# Altium integrated library Linear Technology Operational Amplifiers (LT2000-LT6000).IntLib: 1710 symbols (part 66 of 75)
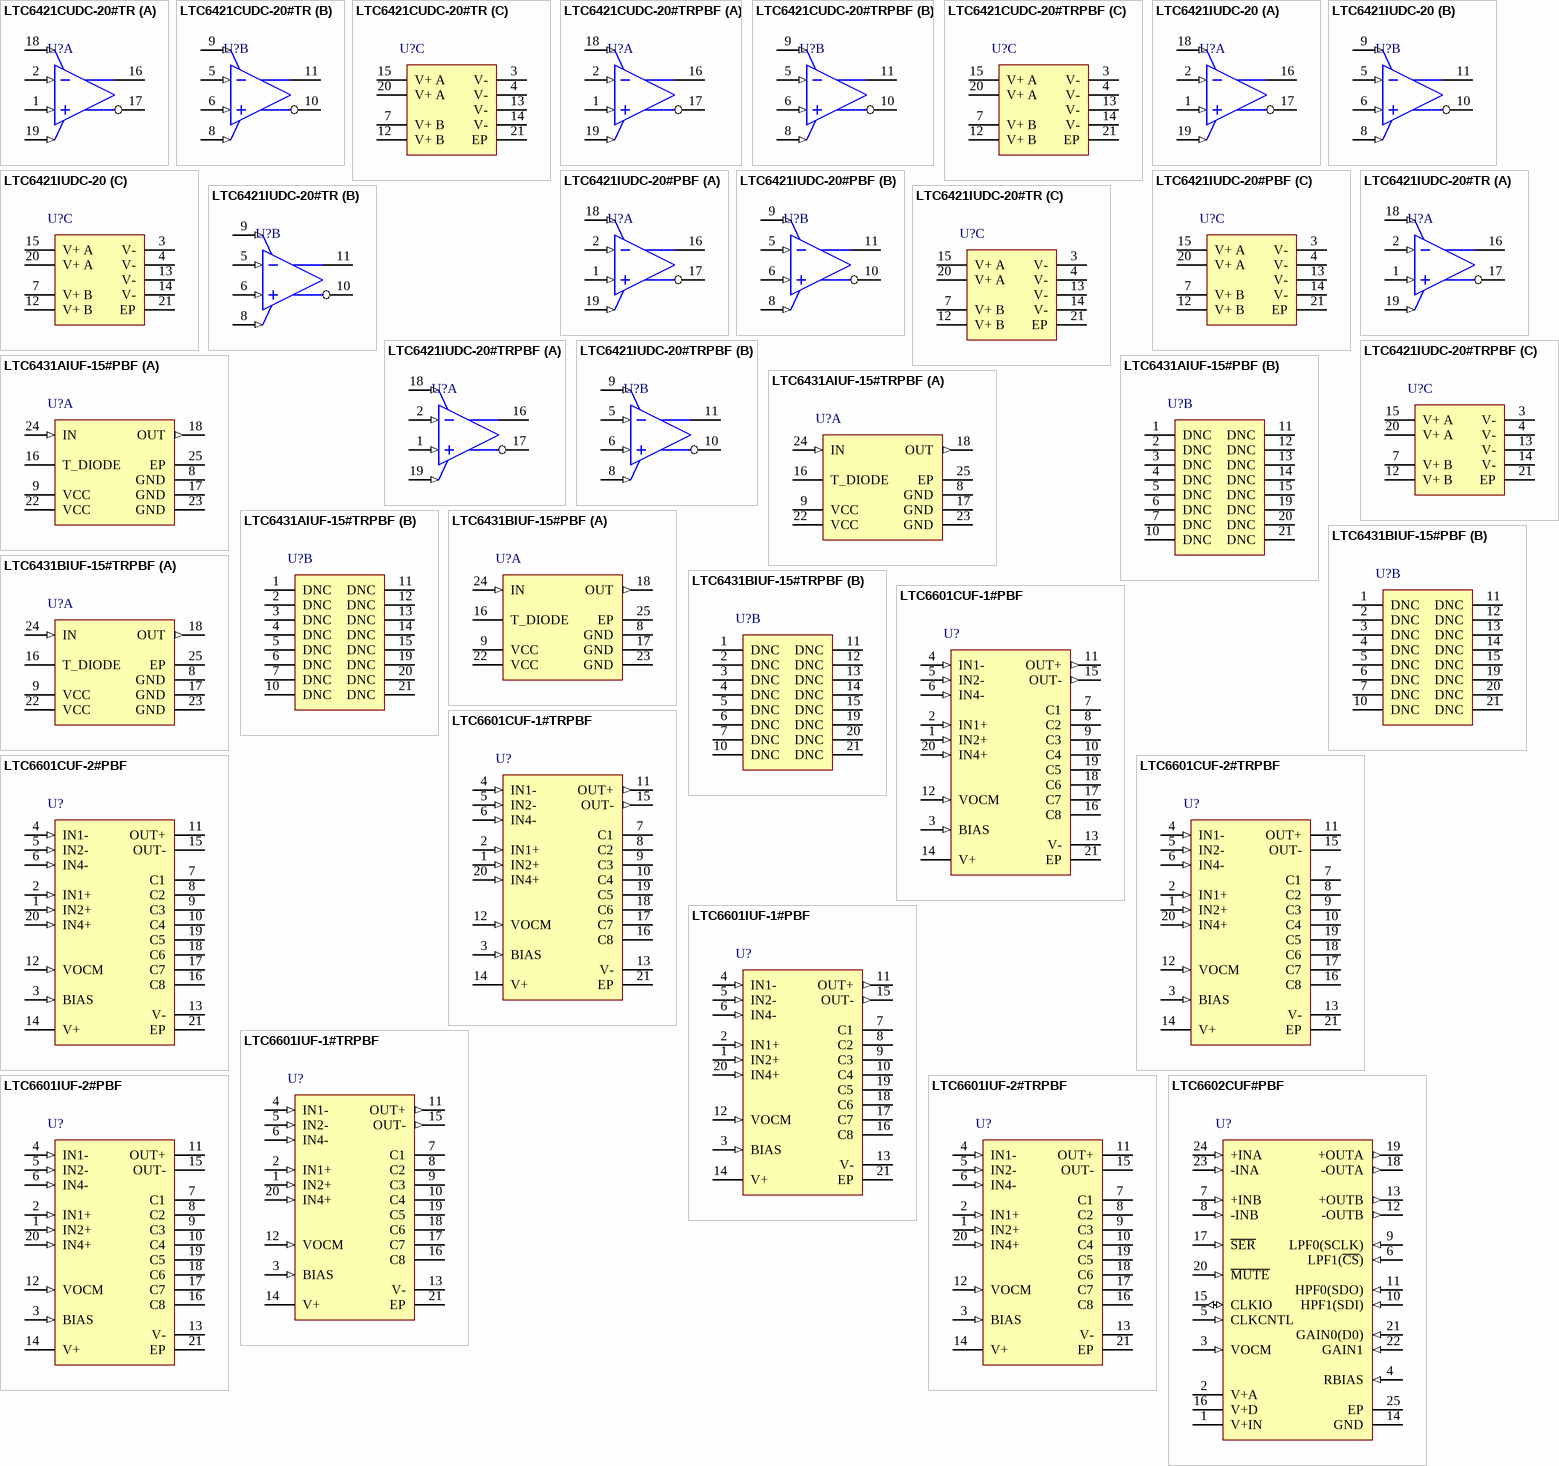
[diagram p145: symbols LTC6421CUDC-20#TR to LTC6602CUF#PBF]

## LTC6421IUDC-20#PBF
designator U?
Dual Channel, Matched Differential Amplifier / ADC Driver, 1300 MHz Typical GBW, 4500 V/us Typical SR, 2.85 to 3.5 V, 20-Pin QFN (UDC20), Industrial, Pb-Free; Linear Technology Part Number: LTC6421-20; Manufacturer: Linear Technology; PartNumber: LTC6421IUDC-20#PBF; Channels (#): 2; GBW (MHz) Typical: 1300; Is (mA) Typical: 40; SR (V/us) Typical: 4500; Vos (mV) Typical: 0.4; Vs Max (V): 3.5; Vs Min (V): 2.85; DatasheetVersion: Rev. B; PackageVersion: Rev Ø; PackageReference: LT-UDC-20; PackageDescription: 20-Lead Plastic QFN, Body 3 x 4 mm, Pitch 0.5 mm; Supplier 1: Digi-Key; Supplier Part Number 1: LTC6421IUDC-20#PBF-ND; Supplier 2: Farnell; Supplier Part Number 2: 1609736; Supplier 3: Newark; Supplier Part Number 3: 95M6548; RoHS: Pb-Free; Type: DIFF; Mounting Technology: Surface Mount; ComponentLink1Description: Manufacturer URL; ComponentLink1URL: http://www.linear.com/; ComponentLink2Description: Datasheet; ComponentLink2URL: http://cds.linear.com/docs/en/datasheet/642120f.pdf; ComponentLink3Description: Package Specification; ComponentLink3URL: http://cds.linear.com/docs/en/packaging/QFN_20_05-08-1742.pdf
footprint LT-UDC-20_N (QFN, 20-Leads, Body 4x3mm, Pitch 0.5mm, Thermal Pad 2.5x1.5mm, IPC Medium Density)
footprint LT-UDC-20_L (QFN, 20-Leads, Body 4x3mm, Pitch 0.5mm, Thermal Pad 2.5x1.5mm, IPC High Density)
footprint LT-UDC-20_M (QFN, 20-Leads, Body 4x3mm, Pitch 0.5mm, Thermal Pad 2.5x1.5mm, IPC Low Density)
part A pins: 1 +INA (in) "Differential Input of A channel respectively.", 2 -INA (in) "Differential Input of A channel respectively.", 16 -OUTA (hiz) "Differential Output of channe A respectively.", 17 +OUTA (hiz) "Differential Output of channe A respectively.", 18 ~{ENABLEA} (in) "Logic input. If low, the amplifier is enabled. If high, the amplifier is disabled and placed in a low power shutdown mode, making the amplifier outputs high impedance. These pin is internally separate. These pin should not (See Datasheet)", 19 VOCMA (in) "These pin sets the output common mode voltage for the respective channel. It is  internally separate. A 0.1uF external bypass capacitor is recommended."
part B pins: 5 -INB (in) "Differential Input of  B channel respectively.", 6 +INB (in) "Differential Input of  B channel respectively.", 8 VOCMB (in) "These pin sets the output common mode voltage for the respective channel. It is  internally separate. A 0.1uF external bypass capacitor is recommended.", 9 ~{ENABLEB} (in) "Logic input. If low, the amplifier is enabled. If high, the amplifier is disabled and placed in a low power shutdown mode, making the amplifier outputs high impedance. These pin is internally separate. These pin should not (See Datasheet)", 10 +OUTB (hiz) "Differential Output of channe B respectively.", 11 -OUTB (hiz) "Differential Output of channe B respectively."
part C pins: 3 V- (power) "Negative Power Supply. All four pins, as well as the exposed back, must be connected to same voltage/ground.", 4 V- (power) "Negative Power Supply. All four pins, as well as the exposed back, must be connected to same voltage/ground.", 7 V+ B (power) "Positive Power Supply (Normally tied to 3V or 3.3V). Supply pins of A and B channels are internally separate. Bypass each pin with 1000pF and 0.1uF capacitors as close to the pins as possible.", 12 V+ B (power) "Positive Power Supply (Normally tied to 3V or 3.3V). Supply pins of A and B channels are internally separate. Bypass each pin with 1000pF and 0.1uF capacitors as close to the pins as possible.", 13 V- (power) "Negative Power Supply. All four pins, as well as the exposed back, must be connected to same voltage/ground.", 14 V- (power) "Negative Power Supply. All four pins, as well as the exposed back, must be connected to same voltage/ground.", 15 V+ A (power) "Positive Power Supply (Normally tied to 3V or 3.3V). Supply pins of A and B channels are internally separate. Bypass each pin with 1000pF and 0.1uF capacitors as close to the pins as possible.", 20 V+ A (power) "Positive Power Supply (Normally tied to 3V or 3.3V). Supply pins of A and B channels are internally separate. Bypass each pin with 1000pF and 0.1uF capacitors as close to the pins as possible.", 21 EP (power) "V-. The Exposed Pad must be connected to same voltage/ground as pins 3, 4, 13, 14."

## LTC6421IUDC-20#TR
designator U?
Dual Channel, Matched Differential Amplifier / ADC Driver, 1300 MHz Typical GBW, 4500 V/us Typical SR, 2.85 to 3.5 V, 20-Pin QFN (UDC20), Industrial, Reel; Linear Technology Part Number: LTC6421-20; Manufacturer: Linear Technology; PartNumber: LTC6421IUDC-20#TR; Channels (#): 2; GBW (MHz) Typical: 1300; Is (mA) Typical: 40; SR (V/us) Typical: 4500; Vos (mV) Typical: 0.4; Vs Max (V): 3.5; Vs Min (V): 2.85; DatasheetVersion: Rev. B; PackageVersion: Rev Ø; PackageReference: LT-UDC-20; PackageDescription: 20-Lead Plastic QFN, Body 3 x 4 mm, Pitch 0.5 mm; Supplier 1: Newark; Supplier Part Number 1: 95M6549; Packing: Reel; Type: DIFF; Mounting Technology: Surface Mount; ComponentLink1Description: Manufacturer URL; ComponentLink1URL: http://www.linear.com/; ComponentLink2Description: Datasheet; ComponentLink2URL: http://cds.linear.com/docs/en/datasheet/642120f.pdf; ComponentLink3Description: Package Specification; ComponentLink3URL: http://cds.linear.com/docs/en/packaging/QFN_20_05-08-1742.pdf
footprint LT-UDC-20_N (QFN, 20-Leads, Body 4x3mm, Pitch 0.5mm, Thermal Pad 2.5x1.5mm, IPC Medium Density)
footprint LT-UDC-20_L (QFN, 20-Leads, Body 4x3mm, Pitch 0.5mm, Thermal Pad 2.5x1.5mm, IPC High Density)
footprint LT-UDC-20_M (QFN, 20-Leads, Body 4x3mm, Pitch 0.5mm, Thermal Pad 2.5x1.5mm, IPC Low Density)
part A pins: 1 +INA (in) "Differential Input of A channel respectively.", 2 -INA (in) "Differential Input of A channel respectively.", 16 -OUTA (hiz) "Differential Output of channe A respectively.", 17 +OUTA (hiz) "Differential Output of channe A respectively.", 18 ~{ENABLEA} (in) "Logic input. If low, the amplifier is enabled. If high, the amplifier is disabled and placed in a low power shutdown mode, making the amplifier outputs high impedance. These pin is internally separate. These pin should not (See Datasheet)", 19 VOCMA (in) "These pin sets the output common mode voltage for the respective channel. It is  internally separate. A 0.1uF external bypass capacitor is recommended."
part B pins: 5 -INB (in) "Differential Input of  B channel respectively.", 6 +INB (in) "Differential Input of  B channel respectively.", 8 VOCMB (in) "These pin sets the output common mode voltage for the respective channel. It is  internally separate. A 0.1uF external bypass capacitor is recommended.", 9 ~{ENABLEB} (in) "Logic input. If low, the amplifier is enabled. If high, the amplifier is disabled and placed in a low power shutdown mode, making the amplifier outputs high impedance. These pin is internally separate. These pin should not (See Datasheet)", 10 +OUTB (hiz) "Differential Output of channe B respectively.", 11 -OUTB (hiz) "Differential Output of channe B respectively."
part C pins: 3 V- (power) "Negative Power Supply. All four pins, as well as the exposed back, must be connected to same voltage/ground.", 4 V- (power) "Negative Power Supply. All four pins, as well as the exposed back, must be connected to same voltage/ground.", 7 V+ B (power) "Positive Power Supply (Normally tied to 3V or 3.3V). Supply pins of A and B channels are internally separate. Bypass each pin with 1000pF and 0.1uF capacitors as close to the pins as possible.", 12 V+ B (power) "Positive Power Supply (Normally tied to 3V or 3.3V). Supply pins of A and B channels are internally separate. Bypass each pin with 1000pF and 0.1uF capacitors as close to the pins as possible.", 13 V- (power) "Negative Power Supply. All four pins, as well as the exposed back, must be connected to same voltage/ground.", 14 V- (power) "Negative Power Supply. All four pins, as well as the exposed back, must be connected to same voltage/ground.", 15 V+ A (power) "Positive Power Supply (Normally tied to 3V or 3.3V). Supply pins of A and B channels are internally separate. Bypass each pin with 1000pF and 0.1uF capacitors as close to the pins as possible.", 20 V+ A (power) "Positive Power Supply (Normally tied to 3V or 3.3V). Supply pins of A and B channels are internally separate. Bypass each pin with 1000pF and 0.1uF capacitors as close to the pins as possible.", 21 EP (power) "V-. The Exposed Pad must be connected to same voltage/ground as pins 3, 4, 13, 14."

## LTC6421IUDC-20#TRPBF
designator U?
Dual Channel, Matched Differential Amplifier / ADC Driver, 1300 MHz Typical GBW, 4500 V/us Typical SR, 2.85 to 3.5 V, 20-Pin QFN (UDC20), Industrial, Pb-Free, Reel; Linear Technology Part Number: LTC6421-20; Manufacturer: Linear Technology; PartNumber: LTC6421IUDC-20#TRPBF; Channels (#): 2; GBW (MHz) Typical: 1300; Is (mA) Typical: 40; SR (V/us) Typical: 4500; Vos (mV) Typical: 0.4; Vs Max (V): 3.5; Vs Min (V): 2.85; DatasheetVersion: Rev. B; PackageVersion: Rev Ø; PackageReference: LT-UDC-20; PackageDescription: 20-Lead Plastic QFN, Body 3 x 4 mm, Pitch 0.5 mm; Supplier 1: Digi-Key; Supplier Part Number 1: LTC6421IUDC-20#TRPBF-ND; Supplier 2: Newark; Supplier Part Number 2: 95M6550; Packing: Reel; RoHS: Pb-Free; Type: DIFF; Mounting Technology: Surface Mount; ComponentLink1Description: Manufacturer URL; ComponentLink1URL: http://www.linear.com/; ComponentLink2Description: Datasheet; ComponentLink2URL: http://cds.linear.com/docs/en/datasheet/642120f.pdf; ComponentLink3Description: Package Specification; ComponentLink3URL: http://cds.linear.com/docs/en/packaging/QFN_20_05-08-1742.pdf
footprint LT-UDC-20_N (QFN, 20-Leads, Body 4x3mm, Pitch 0.5mm, Thermal Pad 2.5x1.5mm, IPC Medium Density)
footprint LT-UDC-20_L (QFN, 20-Leads, Body 4x3mm, Pitch 0.5mm, Thermal Pad 2.5x1.5mm, IPC High Density)
footprint LT-UDC-20_M (QFN, 20-Leads, Body 4x3mm, Pitch 0.5mm, Thermal Pad 2.5x1.5mm, IPC Low Density)
part A pins: 1 +INA (in) "Differential Input of A channel respectively.", 2 -INA (in) "Differential Input of A channel respectively.", 16 -OUTA (hiz) "Differential Output of channe A respectively.", 17 +OUTA (hiz) "Differential Output of channe A respectively.", 18 ~{ENABLEA} (in) "Logic input. If low, the amplifier is enabled. If high, the amplifier is disabled and placed in a low power shutdown mode, making the amplifier outputs high impedance. These pin is internally separate. These pin should not (See Datasheet)", 19 VOCMA (in) "These pin sets the output common mode voltage for the respective channel. It is  internally separate. A 0.1uF external bypass capacitor is recommended."
part B pins: 5 -INB (in) "Differential Input of  B channel respectively.", 6 +INB (in) "Differential Input of  B channel respectively.", 8 VOCMB (in) "These pin sets the output common mode voltage for the respective channel. It is  internally separate. A 0.1uF external bypass capacitor is recommended.", 9 ~{ENABLEB} (in) "Logic input. If low, the amplifier is enabled. If high, the amplifier is disabled and placed in a low power shutdown mode, making the amplifier outputs high impedance. These pin is internally separate. These pin should not (See Datasheet)", 10 +OUTB (hiz) "Differential Output of channe B respectively.", 11 -OUTB (hiz) "Differential Output of channe B respectively."
part C pins: 3 V- (power) "Negative Power Supply. All four pins, as well as the exposed back, must be connected to same voltage/ground.", 4 V- (power) "Negative Power Supply. All four pins, as well as the exposed back, must be connected to same voltage/ground.", 7 V+ B (power) "Positive Power Supply (Normally tied to 3V or 3.3V). Supply pins of A and B channels are internally separate. Bypass each pin with 1000pF and 0.1uF capacitors as close to the pins as possible.", 12 V+ B (power) "Positive Power Supply (Normally tied to 3V or 3.3V). Supply pins of A and B channels are internally separate. Bypass each pin with 1000pF and 0.1uF capacitors as close to the pins as possible.", 13 V- (power) "Negative Power Supply. All four pins, as well as the exposed back, must be connected to same voltage/ground.", 14 V- (power) "Negative Power Supply. All four pins, as well as the exposed back, must be connected to same voltage/ground.", 15 V+ A (power) "Positive Power Supply (Normally tied to 3V or 3.3V). Supply pins of A and B channels are internally separate. Bypass each pin with 1000pF and 0.1uF capacitors as close to the pins as possible.", 20 V+ A (power) "Positive Power Supply (Normally tied to 3V or 3.3V). Supply pins of A and B channels are internally separate. Bypass each pin with 1000pF and 0.1uF capacitors as close to the pins as possible.", 21 EP (power) "V-. The Exposed Pad must be connected to same voltage/ground as pins 3, 4, 13, 14."

## LTC6431AIUF-15#PBF
designator U?
Single Channel, 50 Ohm Gain Block IF Amplifier, 2000 MHz Typical GBW, 4.75 to 5.25 V, 24-Pin QFN (UF24), Industrial, Pb-Free; Linear Technology Part Number: LTC6431-15; Manufacturer: Linear Technology; PartNumber: LTC6431AIUF-15#PBF; Channels (#): 1; GBW (MHz) Typical: 2000; Is (mA) Typical: 85.1; Vs Max (V): 5.25; Vs Min (V): 4.75; PackageVersion: Rev B; PackageReference: LT-UF-24; PackageDescription: 24-Lead Plastic QFN, Body 4 x 4 mm, Pitch 0.5 mm; Supplier 1: Digi-Key; Supplier Part Number 1: LTC6431AIUF-15#PBF-ND; Supplier 2: Farnell; Supplier Part Number 2: 2215125; Supplier 3: Newark; Supplier Part Number 3: 27W9507; RoHS: Pb-Free; Mounting Technology: Surface Mount; Code_JEDEC: MO-220; ComponentLink1Description: Manufacturer URL; ComponentLink1URL: http://www.linear.com/; ComponentLink2Description: Datasheet; ComponentLink2URL: http://cds.linear.com/docs/en/datasheet/643115f.pdf; ComponentLink3Description: Package Specification; ComponentLink3URL: http://cds.linear.com/docs/en/packaging/%28UF24%29%20QFN%2005-08-1697%20Rev%20B.pdf
footprint LT-UF-24_N (QFN, 24-Leads, Body 4x4mm, Pitch 0.5mm, Thermal Pad 2.45x2.45mm, IPC Medium Density)
footprint LT-UF-24_L (QFN, 24-Leads, Body 4x4mm, Pitch 0.5mm, Thermal Pad 2.45x2.45mm, IPC High Density)
footprint LT-UF-24_M (QFN, 24-Leads, Body 4x4mm, Pitch 0.5mm, Thermal Pad 2.45x2.45mm, IPC Low Density)
part A pins: 8 GND (power) "Ground. For best RF performance, all ground pins should be connected to the printed circuit board ground plane. The exposed pad should have multiple via holes to an underlying ground plane for low inductance and good thermal (See Datasheet)", 9 VCC (power) "Positive Power Supply. Either VCC pin should be connected to the 5V supply. Bypass the VCC pin with 1000pF and 0.1uF capacitors. The 1000pF capacitor should be physically close to Pin 22.", 16 T_DIODE "Optional Diode. The T_DIODE can be forward-biased to ground with 1mA of current. The measured voltage will be an indicator of chip temperature.", 17 GND (power) "Ground. For best RF performance, all ground pins should be connected to the printed circuit board ground plane. The exposed pad should have multiple via holes to an underlying ground plane for low inductance and good thermal (See Datasheet)", 18 OUT (out) "Amplifier Output Pin. A choke inductor is necessary to provide power from the 5V supply and to provide RF isolation. For best performance select a choke with low loss and high self-resonant frequency (SRF). A DC blocking (See Datasheet)", 22 VCC (power) "Positive Power Supply. Either VCC pin should be connected to the 5V supply. Bypass the VCC pin with 1000pF and 0.1uF capacitors. The 1000pF capacitor should be physically close to Pin 22.", 23 GND (power) "Ground. For best RF performance, all ground pins should be connected to the printed circuit board ground plane. The exposed pad should have multiple via holes to an underlying ground plane for low inductance and good thermal (See Datasheet)", 24 IN (in) "Signal Input Pin. This pin has an internally generated 2V DC bias. A DC blocking capacitor is required. See the Applications Information section for specific recommendations.", 25 EP (power) "Ground. For best RF performance, all ground pins should be connected to the printed circuit board ground plane. The exposed pad should have multiple via holes to an underlying ground plane for low inductance and good thermal (See Datasheet)"
part B pins: 1 DNC "Do Not Connect. Do not connect these pins; allow them to float.Failure to float these pins may impair operation of the LTC6431-15.", 2 DNC "Do Not Connect. Do not connect these pins; allow them to float.Failure to float these pins may impair operation of the LTC6431-15.", 3 DNC "Do Not Connect. Do not connect these pins; allow them to float.Failure to float these pins may impair operation of the LTC6431-15.", 4 DNC "Do Not Connect. Do not connect these pins; allow them to float.Failure to float these pins may impair operation of the LTC6431-15.", 5 DNC "Do Not Connect. Do not connect these pins; allow them to float.Failure to float these pins may impair operation of the LTC6431-15.", 6 DNC "Do Not Connect. Do not connect these pins; allow them to float.Failure to float these pins may impair operation of the LTC6431-15.", 7 DNC "Do Not Connect. Do not connect these pins; allow them to float.Failure to float these pins may impair operation of the LTC6431-15.", 10 DNC "Do Not Connect. Do not connect these pins; allow them to float.Failure to float these pins may impair operation of the LTC6431-15.", 11 DNC "Do Not Connect. Do not connect these pins; allow them to float.Failure to float these pins may impair operation of the LTC6431-15.", 12 DNC "Do Not Connect. Do not connect these pins; allow them to float.Failure to float these pins may impair operation of the LTC6431-15.", 13 DNC "Do Not Connect. Do not connect these pins; allow them to float.Failure to float these pins may impair operation of the LTC6431-15.", 14 DNC "Do Not Connect. Do not connect these pins; allow them to float.Failure to float these pins may impair operation of the LTC6431-15.", 15 DNC "Do Not Connect. Do not connect these pins; allow them to float.Failure to float these pins may impair operation of the LTC6431-15.", 19 DNC "Do Not Connect. Do not connect these pins; allow them to float.Failure to float these pins may impair operation of the LTC6431-15.", 20 DNC "Do Not Connect. Do not connect these pins; allow them to float.Failure to float these pins may impair operation of the LTC6431-15.", 21 DNC "Do Not Connect. Do not connect these pins; allow them to float.Failure to float these pins may impair operation of the LTC6431-15."

## LTC6431AIUF-15#TRPBF
designator U?
Single Channel, 50 Ohm Gain Block IF Amplifier, 2000 MHz Typical GBW, 4.75 to 5.25 V, 24-Pin QFN (UF24), Industrial, Pb-Free, Reel; Linear Technology Part Number: LTC6431-15; Manufacturer: Linear Technology; PartNumber: LTC6431AIUF-15#TRPBF; Channels (#): 1; GBW (MHz) Typical: 2000; Is (mA) Typical: 85.1; Vs Max (V): 5.25; Vs Min (V): 4.75; PackageVersion: Rev B; PackageReference: LT-UF-24; PackageDescription: 24-Lead Plastic QFN, Body 4 x 4 mm, Pitch 0.5 mm; Supplier 1: Digi-Key; Supplier Part Number 1: LTC6431AIUF-15#TRPBF-ND; Supplier 2: Newark; Supplier Part Number 2: 27W9508; Packing: Reel; RoHS: Pb-Free; Mounting Technology: Surface Mount; Code_JEDEC: MO-220; ComponentLink1Description: Manufacturer URL; ComponentLink1URL: http://www.linear.com/; ComponentLink2Description: Datasheet; ComponentLink2URL: http://cds.linear.com/docs/en/datasheet/643115f.pdf; ComponentLink3Description: Package Specification; ComponentLink3URL: http://cds.linear.com/docs/en/packaging/%28UF24%29%20QFN%2005-08-1697%20Rev%20B.pdf
footprint LT-UF-24_N (QFN, 24-Leads, Body 4x4mm, Pitch 0.5mm, Thermal Pad 2.45x2.45mm, IPC Medium Density)
footprint LT-UF-24_L (QFN, 24-Leads, Body 4x4mm, Pitch 0.5mm, Thermal Pad 2.45x2.45mm, IPC High Density)
footprint LT-UF-24_M (QFN, 24-Leads, Body 4x4mm, Pitch 0.5mm, Thermal Pad 2.45x2.45mm, IPC Low Density)
part A pins: 8 GND (power) "Ground. For best RF performance, all ground pins should be connected to the printed circuit board ground plane. The exposed pad should have multiple via holes to an underlying ground plane for low inductance and good thermal (See Datasheet)", 9 VCC (power) "Positive Power Supply. Either VCC pin should be connected to the 5V supply. Bypass the VCC pin with 1000pF and 0.1uF capacitors. The 1000pF capacitor should be physically close to Pin 22.", 16 T_DIODE "Optional Diode. The T_DIODE can be forward-biased to ground with 1mA of current. The measured voltage will be an indicator of chip temperature.", 17 GND (power) "Ground. For best RF performance, all ground pins should be connected to the printed circuit board ground plane. The exposed pad should have multiple via holes to an underlying ground plane for low inductance and good thermal (See Datasheet)", 18 OUT (out) "Amplifier Output Pin. A choke inductor is necessary to provide power from the 5V supply and to provide RF isolation. For best performance select a choke with low loss and high self-resonant frequency (SRF). A DC blocking (See Datasheet)", 22 VCC (power) "Positive Power Supply. Either VCC pin should be connected to the 5V supply. Bypass the VCC pin with 1000pF and 0.1uF capacitors. The 1000pF capacitor should be physically close to Pin 22.", 23 GND (power) "Ground. For best RF performance, all ground pins should be connected to the printed circuit board ground plane. The exposed pad should have multiple via holes to an underlying ground plane for low inductance and good thermal (See Datasheet)", 24 IN (in) "Signal Input Pin. This pin has an internally generated 2V DC bias. A DC blocking capacitor is required. See the Applications Information section for specific recommendations.", 25 EP (power) "Ground. For best RF performance, all ground pins should be connected to the printed circuit board ground plane. The exposed pad should have multiple via holes to an underlying ground plane for low inductance and good thermal (See Datasheet)"
part B pins: 1 DNC "Do Not Connect. Do not connect these pins; allow them to float.Failure to float these pins may impair operation of the LTC6431-15.", 2 DNC "Do Not Connect. Do not connect these pins; allow them to float.Failure to float these pins may impair operation of the LTC6431-15.", 3 DNC "Do Not Connect. Do not connect these pins; allow them to float.Failure to float these pins may impair operation of the LTC6431-15.", 4 DNC "Do Not Connect. Do not connect these pins; allow them to float.Failure to float these pins may impair operation of the LTC6431-15.", 5 DNC "Do Not Connect. Do not connect these pins; allow them to float.Failure to float these pins may impair operation of the LTC6431-15.", 6 DNC "Do Not Connect. Do not connect these pins; allow them to float.Failure to float these pins may impair operation of the LTC6431-15.", 7 DNC "Do Not Connect. Do not connect these pins; allow them to float.Failure to float these pins may impair operation of the LTC6431-15.", 10 DNC "Do Not Connect. Do not connect these pins; allow them to float.Failure to float these pins may impair operation of the LTC6431-15.", 11 DNC "Do Not Connect. Do not connect these pins; allow them to float.Failure to float these pins may impair operation of the LTC6431-15.", 12 DNC "Do Not Connect. Do not connect these pins; allow them to float.Failure to float these pins may impair operation of the LTC6431-15.", 13 DNC "Do Not Connect. Do not connect these pins; allow them to float.Failure to float these pins may impair operation of the LTC6431-15.", 14 DNC "Do Not Connect. Do not connect these pins; allow them to float.Failure to float these pins may impair operation of the LTC6431-15.", 15 DNC "Do Not Connect. Do not connect these pins; allow them to float.Failure to float these pins may impair operation of the LTC6431-15.", 19 DNC "Do Not Connect. Do not connect these pins; allow them to float.Failure to float these pins may impair operation of the LTC6431-15.", 20 DNC "Do Not Connect. Do not connect these pins; allow them to float.Failure to float these pins may impair operation of the LTC6431-15.", 21 DNC "Do Not Connect. Do not connect these pins; allow them to float.Failure to float these pins may impair operation of the LTC6431-15."

## LTC6431BIUF-15#PBF
designator U?
Single Channel, 50 Ohm Gain Block IF Amplifier, 2000 MHz Typical GBW, 4.75 to 5.25 V, 24-Pin QFN (UF24), Industrial, Pb-Free; Linear Technology Part Number: LTC6431-15; Manufacturer: Linear Technology; PartNumber: LTC6431BIUF-15#PBF; Channels (#): 1; GBW (MHz) Typical: 2000; Is (mA) Typical: 85.1; Vs Max (V): 5.25; Vs Min (V): 4.75; PackageVersion: Rev B; PackageReference: LT-UF-24; PackageDescription: 24-Lead Plastic QFN, Body 4 x 4 mm, Pitch 0.5 mm; Supplier 1: Digi-Key; Supplier Part Number 1: LTC6431BIUF-15#PBF-ND; Supplier 2: Farnell; Supplier Part Number 2: 2215126; Supplier 3: Newark; Supplier Part Number 3: 27W9509; RoHS: Pb-Free; Mounting Technology: Surface Mount; Code_JEDEC: MO-220; ComponentLink1Description: Manufacturer URL; ComponentLink1URL: http://www.linear.com/; ComponentLink2Description: Datasheet; ComponentLink2URL: http://cds.linear.com/docs/en/datasheet/643115f.pdf; ComponentLink3Description: Package Specification; ComponentLink3URL: http://cds.linear.com/docs/en/packaging/%28UF24%29%20QFN%2005-08-1697%20Rev%20B.pdf
footprint LT-UF-24_N (QFN, 24-Leads, Body 4x4mm, Pitch 0.5mm, Thermal Pad 2.45x2.45mm, IPC Medium Density)
footprint LT-UF-24_L (QFN, 24-Leads, Body 4x4mm, Pitch 0.5mm, Thermal Pad 2.45x2.45mm, IPC High Density)
footprint LT-UF-24_M (QFN, 24-Leads, Body 4x4mm, Pitch 0.5mm, Thermal Pad 2.45x2.45mm, IPC Low Density)
part A pins: 8 GND (power) "Ground. For best RF performance, all ground pins should be connected to the printed circuit board ground plane. The exposed pad should have multiple via holes to an underlying ground plane for low inductance and good thermal (See Datasheet)", 9 VCC (power) "Positive Power Supply. Either VCC pin should be connected to the 5V supply. Bypass the VCC pin with 1000pF and 0.1uF capacitors. The 1000pF capacitor should be physically close to Pin 22.", 16 T_DIODE "Optional Diode. The T_DIODE can be forward-biased to ground with 1mA of current. The measured voltage will be an indicator of chip temperature.", 17 GND (power) "Ground. For best RF performance, all ground pins should be connected to the printed circuit board ground plane. The exposed pad should have multiple via holes to an underlying ground plane for low inductance and good thermal (See Datasheet)", 18 OUT (out) "Amplifier Output Pin. A choke inductor is necessary to provide power from the 5V supply and to provide RF isolation. For best performance select a choke with low loss and high self-resonant frequency (SRF). A DC blocking (See Datasheet)", 22 VCC (power) "Positive Power Supply. Either VCC pin should be connected to the 5V supply. Bypass the VCC pin with 1000pF and 0.1uF capacitors. The 1000pF capacitor should be physically close to Pin 22.", 23 GND (power) "Ground. For best RF performance, all ground pins should be connected to the printed circuit board ground plane. The exposed pad should have multiple via holes to an underlying ground plane for low inductance and good thermal (See Datasheet)", 24 IN (in) "Signal Input Pin. This pin has an internally generated 2V DC bias. A DC blocking capacitor is required. See the Applications Information section for specific recommendations.", 25 EP (power) "Ground. For best RF performance, all ground pins should be connected to the printed circuit board ground plane. The exposed pad should have multiple via holes to an underlying ground plane for low inductance and good thermal (See Datasheet)"
part B pins: 1 DNC "Do Not Connect. Do not connect these pins; allow them to float.Failure to float these pins may impair operation of the LTC6431-15.", 2 DNC "Do Not Connect. Do not connect these pins; allow them to float.Failure to float these pins may impair operation of the LTC6431-15.", 3 DNC "Do Not Connect. Do not connect these pins; allow them to float.Failure to float these pins may impair operation of the LTC6431-15.", 4 DNC "Do Not Connect. Do not connect these pins; allow them to float.Failure to float these pins may impair operation of the LTC6431-15.", 5 DNC "Do Not Connect. Do not connect these pins; allow them to float.Failure to float these pins may impair operation of the LTC6431-15.", 6 DNC "Do Not Connect. Do not connect these pins; allow them to float.Failure to float these pins may impair operation of the LTC6431-15.", 7 DNC "Do Not Connect. Do not connect these pins; allow them to float.Failure to float these pins may impair operation of the LTC6431-15.", 10 DNC "Do Not Connect. Do not connect these pins; allow them to float.Failure to float these pins may impair operation of the LTC6431-15.", 11 DNC "Do Not Connect. Do not connect these pins; allow them to float.Failure to float these pins may impair operation of the LTC6431-15.", 12 DNC "Do Not Connect. Do not connect these pins; allow them to float.Failure to float these pins may impair operation of the LTC6431-15.", 13 DNC "Do Not Connect. Do not connect these pins; allow them to float.Failure to float these pins may impair operation of the LTC6431-15.", 14 DNC "Do Not Connect. Do not connect these pins; allow them to float.Failure to float these pins may impair operation of the LTC6431-15.", 15 DNC "Do Not Connect. Do not connect these pins; allow them to float.Failure to float these pins may impair operation of the LTC6431-15.", 19 DNC "Do Not Connect. Do not connect these pins; allow them to float.Failure to float these pins may impair operation of the LTC6431-15.", 20 DNC "Do Not Connect. Do not connect these pins; allow them to float.Failure to float these pins may impair operation of the LTC6431-15.", 21 DNC "Do Not Connect. Do not connect these pins; allow them to float.Failure to float these pins may impair operation of the LTC6431-15."

## LTC6431BIUF-15#TRPBF
designator U?
Single Channel, 50 Ohm Gain Block IF Amplifier, 2000 MHz Typical GBW, 4.75 to 5.25 V, 24-Pin QFN (UF24), Industrial, Pb-Free, Reel; Linear Technology Part Number: LTC6431-15; Manufacturer: Linear Technology; PartNumber: LTC6431BIUF-15#TRPBF; Channels (#): 1; GBW (MHz) Typical: 2000; Is (mA) Typical: 85.1; Vs Max (V): 5.25; Vs Min (V): 4.75; PackageVersion: Rev B; PackageReference: LT-UF-24; PackageDescription: 24-Lead Plastic QFN, Body 4 x 4 mm, Pitch 0.5 mm; Supplier 1: Digi-Key; Supplier Part Number 1: LTC6431BIUF-15#TRPBF-ND; Supplier 2: Newark; Supplier Part Number 2: 27W9510; Packing: Reel; RoHS: Pb-Free; Mounting Technology: Surface Mount; Code_JEDEC: MO-220; ComponentLink1Description: Manufacturer URL; ComponentLink1URL: http://www.linear.com/; ComponentLink2Description: Datasheet; ComponentLink2URL: http://cds.linear.com/docs/en/datasheet/643115f.pdf; ComponentLink3Description: Package Specification; ComponentLink3URL: http://cds.linear.com/docs/en/packaging/%28UF24%29%20QFN%2005-08-1697%20Rev%20B.pdf
footprint LT-UF-24_N (QFN, 24-Leads, Body 4x4mm, Pitch 0.5mm, Thermal Pad 2.45x2.45mm, IPC Medium Density)
footprint LT-UF-24_L (QFN, 24-Leads, Body 4x4mm, Pitch 0.5mm, Thermal Pad 2.45x2.45mm, IPC High Density)
footprint LT-UF-24_M (QFN, 24-Leads, Body 4x4mm, Pitch 0.5mm, Thermal Pad 2.45x2.45mm, IPC Low Density)
part A pins: 8 GND (power) "Ground. For best RF performance, all ground pins should be connected to the printed circuit board ground plane. The exposed pad should have multiple via holes to an underlying ground plane for low inductance and good thermal (See Datasheet)", 9 VCC (power) "Positive Power Supply. Either VCC pin should be connected to the 5V supply. Bypass the VCC pin with 1000pF and 0.1uF capacitors. The 1000pF capacitor should be physically close to Pin 22.", 16 T_DIODE "Optional Diode. The T_DIODE can be forward-biased to ground with 1mA of current. The measured voltage will be an indicator of chip temperature.", 17 GND (power) "Ground. For best RF performance, all ground pins should be connected to the printed circuit board ground plane. The exposed pad should have multiple via holes to an underlying ground plane for low inductance and good thermal (See Datasheet)", 18 OUT (out) "Amplifier Output Pin. A choke inductor is necessary to provide power from the 5V supply and to provide RF isolation. For best performance select a choke with low loss and high self-resonant frequency (SRF). A DC blocking (See Datasheet)", 22 VCC (power) "Positive Power Supply. Either VCC pin should be connected to the 5V supply. Bypass the VCC pin with 1000pF and 0.1uF capacitors. The 1000pF capacitor should be physically close to Pin 22.", 23 GND (power) "Ground. For best RF performance, all ground pins should be connected to the printed circuit board ground plane. The exposed pad should have multiple via holes to an underlying ground plane for low inductance and good thermal (See Datasheet)", 24 IN (in) "Signal Input Pin. This pin has an internally generated 2V DC bias. A DC blocking capacitor is required. See the Applications Information section for specific recommendations.", 25 EP (power) "Ground. For best RF performance, all ground pins should be connected to the printed circuit board ground plane. The exposed pad should have multiple via holes to an underlying ground plane for low inductance and good thermal (See Datasheet)"
part B pins: 1 DNC "Do Not Connect. Do not connect these pins; allow them to float.Failure to float these pins may impair operation of the LTC6431-15.", 2 DNC "Do Not Connect. Do not connect these pins; allow them to float.Failure to float these pins may impair operation of the LTC6431-15.", 3 DNC "Do Not Connect. Do not connect these pins; allow them to float.Failure to float these pins may impair operation of the LTC6431-15.", 4 DNC "Do Not Connect. Do not connect these pins; allow them to float.Failure to float these pins may impair operation of the LTC6431-15.", 5 DNC "Do Not Connect. Do not connect these pins; allow them to float.Failure to float these pins may impair operation of the LTC6431-15.", 6 DNC "Do Not Connect. Do not connect these pins; allow them to float.Failure to float these pins may impair operation of the LTC6431-15.", 7 DNC "Do Not Connect. Do not connect these pins; allow them to float.Failure to float these pins may impair operation of the LTC6431-15.", 10 DNC "Do Not Connect. Do not connect these pins; allow them to float.Failure to float these pins may impair operation of the LTC6431-15.", 11 DNC "Do Not Connect. Do not connect these pins; allow them to float.Failure to float these pins may impair operation of the LTC6431-15.", 12 DNC "Do Not Connect. Do not connect these pins; allow them to float.Failure to float these pins may impair operation of the LTC6431-15.", 13 DNC "Do Not Connect. Do not connect these pins; allow them to float.Failure to float these pins may impair operation of the LTC6431-15.", 14 DNC "Do Not Connect. Do not connect these pins; allow them to float.Failure to float these pins may impair operation of the LTC6431-15.", 15 DNC "Do Not Connect. Do not connect these pins; allow them to float.Failure to float these pins may impair operation of the LTC6431-15.", 19 DNC "Do Not Connect. Do not connect these pins; allow them to float.Failure to float these pins may impair operation of the LTC6431-15.", 20 DNC "Do Not Connect. Do not connect these pins; allow them to float.Failure to float these pins may impair operation of the LTC6431-15.", 21 DNC "Do Not Connect. Do not connect these pins; allow them to float.Failure to float these pins may impair operation of the LTC6431-15."

## LTC6601CUF-1#PBF
designator U?
Single Channel, Low Noise, 0.5% Tolerance, Pin Configurable Filter / ADC Driver, 28 MHz Typical GBW, 2.7 to 5.25 V, 20-Pin QFN (UF20), Commercial, Pb-Free; Linear Technology Part Number: LTC6601-1; Manufacturer: Linear Technology; PartNumber: LTC6601CUF-1#PBF; Channels (#): 1; GBW (MHz) Typical: 28; Is (mA) Typical: 32.9; Vos (mV) Typical: 5; Vs Max (V): 5.25; Vs Min (V): 2.7; PackageVersion: Rev A; PackageReference: LT-UF-20; PackageDescription: 20-Lead Plastic QFN, Body 4 x 4 mm, Pitch 0.5 mm; Supplier 1: Digi-Key; Supplier Part Number 1: LTC6601CUF-1#PBF-ND; Supplier 2: Newark; Supplier Part Number 2: 19P0741; RoHS: Pb-Free; Type: DIFF; Mounting Technology: Surface Mount; Code_JEDEC: MO-220; ComponentLink1Description: Manufacturer URL; ComponentLink1URL: http://www.linear.com/; ComponentLink2Description: Datasheet; ComponentLink2URL: http://cds.linear.com/docs/en/datasheet/66011f.pdf; ComponentLink3Description: Package Specification; ComponentLink3URL: http://cds.linear.com/docs/en/packaging/QFN_20_05-08-1710.pdf
footprint LT-UF-20_N (QFN, 20-Leads, Body 4x4mm, Pitch 0.5mm, Thermal Pad 2.45x2.45mm, IPC Medium Density)
footprint LT-UF-20_L (QFN, 20-Leads, Body 4x4mm, Pitch 0.5mm, Thermal Pad 2.45x2.45mm, IPC High Density)
footprint LT-UF-20_M (QFN, 20-Leads, Body 4x4mm, Pitch 0.5mm, Thermal Pad 2.45x2.45mm, IPC Low Density)
pins: 1 IN2+ (in) "Input to a trimmed 100 ohm,200 ohm, 400 ohm resistor which feeds a noninverting summing node. Can accept an input signal, be floated or tied to OUT-.For best performance, stray capacitance should be kept as low as possible (See Datasheet)", 2 IN1+ (in) "Input to a trimmed 100 ohm,200 ohm, 400 ohm resistor which feeds a noninverting summing node. Can accept an input signal, be floated or tied to OUT-.For best performance, stray capacitance should be kept as low as possible (See Datasheet)", 3 BIAS (in) "Input to a three-state comparator whose three states allow the user to tailor amplifi er power. The pin impedance appears as a 150k resistor whose default open-circuit potential is 1.15V with respect to the V- power supply. (See Datasheet)", 4 IN1- (in) "Input to a trimmed 100 ohm,200 ohm, 400 ohm resistor which feeds an inverting summing node. Can accept an input signal, be floated or tied to OUT+. For best performance, it is highly recommended that stray capacitance be (See Datasheet)", 5 IN2- (in) "Input to a trimmed 100 ohm,200 ohm, 400 ohm resistor which feeds an inverting summing node. Can accept an input signal, be floated or tied to OUT+. For best performance, it is highly recommended that stray capacitance be (See Datasheet)", 6 IN4- (in) "Input to a trimmed 100 ohm,200 ohm, 400 ohm resistor which feeds an inverting summing node. Can accept an input signal, be floated or tied to OUT+. For best performance, it is highly recommended that stray capacitance be (See Datasheet)", 7 C1 "Input to a trimmed 16.1pF, 33.3pF capacitor which feeds a noninverting summing node.Typically, either fl oat or tie to OUT-. If either of these pins is tied to a low impedance source other than OUT-,a resistance of at least (See Datasheet)", 8 C2 "Input to a trimmed 16.1pF, 33.3pF capacitor which feeds a noninverting summing node.Typically, either fl oat or tie to OUT-. If either of these pins is tied to a low impedance source other than OUT-,a resistance of at least (See Datasheet)", 9 C3 "Input to a trimmed 10.55pF, 21.1pF capacitor which feeds the amplifier inverting summing node. Typically, either float or tie to OUT+. For best performance,it is highly recommended that stray capacitance be kept to as low as (See Datasheet)", 10 C4 "Input to a trimmed 10.55pF, 21.1pF capacitor which feeds the amplifier inverting summing node. Typically, either float or tie to OUT+. For best performance,it is highly recommended that stray capacitance be kept to as low as (See Datasheet)", 11 OUT+ (out) "Output Pins. Besides driving the internal feedback network, each pin can drive an additional 50 ohm to ground with typical short-circuit current limiting of +/-65mA. Capacitive loading of these pins should be minimized by (See Datasheet)", 12 VOCM (in) "Output Common Mode Reference Voltage.The voltage on VOCM sets the output common mode voltage level (which is defi ned as the average of the voltages on the OUT+ and OUT-pins). The VOCM pin is the midpoint of an internal (See Datasheet)", 13 V- (power) "Power Supply Pins. It is critical that close attention be paid to supply bypassing. For single supply applications (Pin 13 grounded), it is recommended that a high quality 0.1uF surface mount ceramic bypass capacitor (X7R (See Datasheet)", 14 V+ (power) "Power Supply Pins. It is critical that close attention be paid to supply bypassing. For single supply applications (Pin 13 grounded), it is recommended that a high quality 0.1uF surface mount ceramic bypass capacitor (X7R (See Datasheet)", 15 OUT- (out) "Output Pins. Besides driving the internal feedback network, each pin can drive an additional 50 ohm to ground with typical short-circuit current limiting of +/-65mA. Capacitive loading of these pins should be minimized by (See Datasheet)", 16 C8 "Input to a trimmed 10.55pF, 21.1pF capacitor which feeds the amplifier noninverting summing node. Typically, either float or tie to OUT-. For best performance, stray capacitance should be kept as low as possible by keeping (See Datasheet)", 17 C7 "Input to a trimmed 10.55pF, 21.1pF capacitor which feeds the amplifier noninverting summing node. Typically, either float or tie to OUT-. For best performance, stray capacitance should be kept as low as possible by keeping (See Datasheet)", 18 C6 "Input to a trimmed 16.1pF, 33.3pF capacitor which feeds an inverting summing node. Typically,either fl oat or tie to OUT+. If either of these pins are tied to a low impedance source other than OUT+, a resistance of at least (See Datasheet)", 19 C5 "Input to a trimmed 16.1pF, 33.3pF capacitor which feeds an inverting summing node. Typically,either fl oat or tie to OUT+. If either of these pins are tied to a low impedance source other than OUT+, a resistance of at least (See Datasheet)", 20 IN4+ (in) "Input to a trimmed 100 ohm,200 ohm, 400 ohm resistor which feeds a noninverting summing node. Can accept an input signal, be fl oated or tied to OUT-.For best performance, stray capacitance should be kept as low as possible (See Datasheet)", 21 EP (power) "Always tie the underlying Exposed Pad to V- (Pin 13). If split supplies are used, do not tie the pad to ground. Tie it to V-."

## LTC6601CUF-1#TRPBF
designator U?
Single Channel, Low Noise, 0.5% Tolerance, Pin Configurable Filter / ADC Driver, 28 MHz Typical GBW, 2.7 to 5.25 V, 20-Pin QFN (UF20), Commercial, Pb-Free, Reel; Linear Technology Part Number: LTC6601-1; Manufacturer: Linear Technology; PartNumber: LTC6601CUF-1#TRPBF; Channels (#): 1; GBW (MHz) Typical: 28; Is (mA) Typical: 32.9; Vos (mV) Typical: 5; Vs Max (V): 5.25; Vs Min (V): 2.7; PackageVersion: Rev A; PackageReference: LT-UF-20; PackageDescription: 20-Lead Plastic QFN, Body 4 x 4 mm, Pitch 0.5 mm; Supplier 1: Digi-Key; Supplier Part Number 1: LTC6601CUF-1#TRPBF-ND; Packing: Reel; RoHS: Pb-Free; Type: DIFF; Mounting Technology: Surface Mount; Code_JEDEC: MO-220; ComponentLink1Description: Manufacturer URL; ComponentLink1URL: http://www.linear.com/; ComponentLink2Description: Datasheet; ComponentLink2URL: http://cds.linear.com/docs/en/datasheet/66011f.pdf; ComponentLink3Description: Package Specification; ComponentLink3URL: http://cds.linear.com/docs/en/packaging/QFN_20_05-08-1710.pdf
footprint LT-UF-20_N (QFN, 20-Leads, Body 4x4mm, Pitch 0.5mm, Thermal Pad 2.45x2.45mm, IPC Medium Density)
footprint LT-UF-20_L (QFN, 20-Leads, Body 4x4mm, Pitch 0.5mm, Thermal Pad 2.45x2.45mm, IPC High Density)
footprint LT-UF-20_M (QFN, 20-Leads, Body 4x4mm, Pitch 0.5mm, Thermal Pad 2.45x2.45mm, IPC Low Density)
pins: 1 IN2+ (in) "Input to a trimmed 100 ohm,200 ohm, 400 ohm resistor which feeds a noninverting summing node. Can accept an input signal, be floated or tied to OUT-.For best performance, stray capacitance should be kept as low as possible (See Datasheet)", 2 IN1+ (in) "Input to a trimmed 100 ohm,200 ohm, 400 ohm resistor which feeds a noninverting summing node. Can accept an input signal, be floated or tied to OUT-.For best performance, stray capacitance should be kept as low as possible (See Datasheet)", 3 BIAS (in) "Input to a three-state comparator whose three states allow the user to tailor amplifi er power. The pin impedance appears as a 150k resistor whose default open-circuit potential is 1.15V with respect to the V- power supply. (See Datasheet)", 4 IN1- (in) "Input to a trimmed 100 ohm,200 ohm, 400 ohm resistor which feeds an inverting summing node. Can accept an input signal, be floated or tied to OUT+. For best performance, it is highly recommended that stray capacitance be (See Datasheet)", 5 IN2- (in) "Input to a trimmed 100 ohm,200 ohm, 400 ohm resistor which feeds an inverting summing node. Can accept an input signal, be floated or tied to OUT+. For best performance, it is highly recommended that stray capacitance be (See Datasheet)", 6 IN4- (in) "Input to a trimmed 100 ohm,200 ohm, 400 ohm resistor which feeds an inverting summing node. Can accept an input signal, be floated or tied to OUT+. For best performance, it is highly recommended that stray capacitance be (See Datasheet)", 7 C1 "Input to a trimmed 16.1pF, 33.3pF capacitor which feeds a noninverting summing node.Typically, either fl oat or tie to OUT-. If either of these pins is tied to a low impedance source other than OUT-,a resistance of at least (See Datasheet)", 8 C2 "Input to a trimmed 16.1pF, 33.3pF capacitor which feeds a noninverting summing node.Typically, either fl oat or tie to OUT-. If either of these pins is tied to a low impedance source other than OUT-,a resistance of at least (See Datasheet)", 9 C3 "Input to a trimmed 10.55pF, 21.1pF capacitor which feeds the amplifier inverting summing node. Typically, either float or tie to OUT+. For best performance,it is highly recommended that stray capacitance be kept to as low as (See Datasheet)", 10 C4 "Input to a trimmed 10.55pF, 21.1pF capacitor which feeds the amplifier inverting summing node. Typically, either float or tie to OUT+. For best performance,it is highly recommended that stray capacitance be kept to as low as (See Datasheet)", 11 OUT+ (out) "Output Pins. Besides driving the internal feedback network, each pin can drive an additional 50 ohm to ground with typical short-circuit current limiting of +/-65mA. Capacitive loading of these pins should be minimized by (See Datasheet)", 12 VOCM (in) "Output Common Mode Reference Voltage.The voltage on VOCM sets the output common mode voltage level (which is defi ned as the average of the voltages on the OUT+ and OUT-pins). The VOCM pin is the midpoint of an internal (See Datasheet)", 13 V- (power) "Power Supply Pins. It is critical that close attention be paid to supply bypassing. For single supply applications (Pin 13 grounded), it is recommended that a high quality 0.1uF surface mount ceramic bypass capacitor (X7R (See Datasheet)", 14 V+ (power) "Power Supply Pins. It is critical that close attention be paid to supply bypassing. For single supply applications (Pin 13 grounded), it is recommended that a high quality 0.1uF surface mount ceramic bypass capacitor (X7R (See Datasheet)", 15 OUT- (out) "Output Pins. Besides driving the internal feedback network, each pin can drive an additional 50 ohm to ground with typical short-circuit current limiting of +/-65mA. Capacitive loading of these pins should be minimized by (See Datasheet)", 16 C8 "Input to a trimmed 10.55pF, 21.1pF capacitor which feeds the amplifier noninverting summing node. Typically, either float or tie to OUT-. For best performance, stray capacitance should be kept as low as possible by keeping (See Datasheet)", 17 C7 "Input to a trimmed 10.55pF, 21.1pF capacitor which feeds the amplifier noninverting summing node. Typically, either float or tie to OUT-. For best performance, stray capacitance should be kept as low as possible by keeping (See Datasheet)", 18 C6 "Input to a trimmed 16.1pF, 33.3pF capacitor which feeds an inverting summing node. Typically,either fl oat or tie to OUT+. If either of these pins are tied to a low impedance source other than OUT+, a resistance of at least (See Datasheet)", 19 C5 "Input to a trimmed 16.1pF, 33.3pF capacitor which feeds an inverting summing node. Typically,either fl oat or tie to OUT+. If either of these pins are tied to a low impedance source other than OUT+, a resistance of at least (See Datasheet)", 20 IN4+ (in) "Input to a trimmed 100 ohm,200 ohm, 400 ohm resistor which feeds a noninverting summing node. Can accept an input signal, be fl oated or tied to OUT-.For best performance, stray capacitance should be kept as low as possible (See Datasheet)", 21 EP (power) "Always tie the underlying Exposed Pad to V- (Pin 13). If split supplies are used, do not tie the pad to ground. Tie it to V-."